# EAGLE library part TC2030 (library parts)
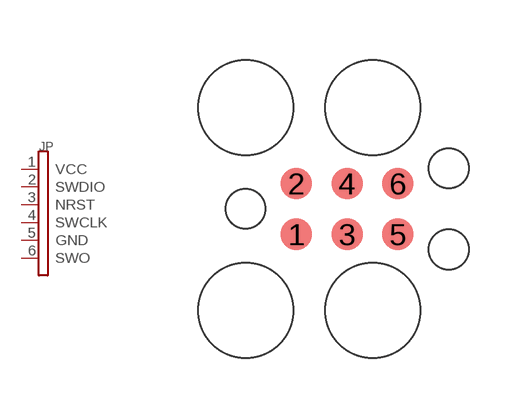
[diagram p3: symbol with the pads of TE2030; footprint TE2030]

Designator prefix JP

## TC2030  [TE2030]
1  VCC
2  SWDIO
3  NRST
4  SWCLK
5  GND
6  SWO

## Footprint TE2030 (pad centres in mm)
smd 0.787 x 0.787: 1 -1.27,-0.635; 2 -1.27,0.635; 3 0,-0.635; 4 0,0.635; 5 1.27,-0.635; 6 1.27,0.635
hole 0.991 at -2.54,0
hole 0.991 at 2.54,1.016
hole 0.991 at 2.54,-1.016
hole 2.375 at -2.54,2.54
hole 2.375 at -2.54,-2.54
hole 2.375 at 0.635,2.54
hole 2.375 at 0.635,-2.54